# EAGLE library part LM2596SX-5.0/NOPB (library FillControl)
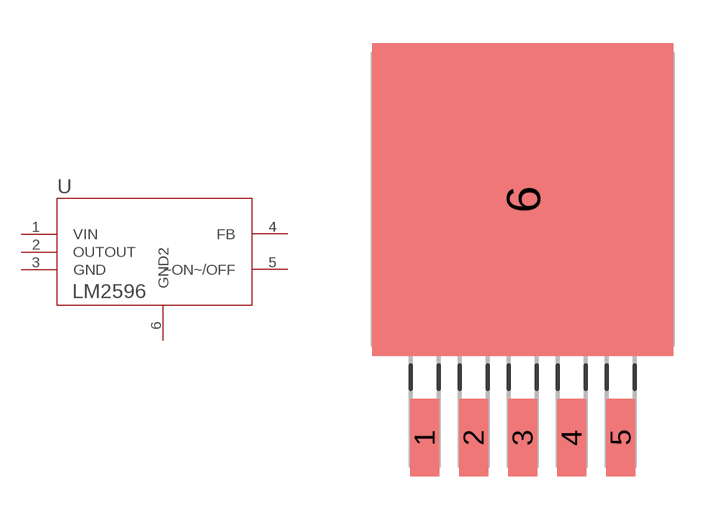
[diagram p1: symbol with the pads of TS5B; footprint TS5B]

Designator prefix U

## LM2596SX-5.0/NOPB (MANUFACTURER_PART_NUMBER: LM2596SX5.0NOPB; VENDOR: Texas Instruments)  [TS5B]
1  VIN  in
2  OUTOUT  out
3  GND  pas
4  FB  pas
5  ~ON~/OFF  pas
6  GND2  pas

## Footprint TS5B (pad centres in mm)
smd 1.016 x 2.692: 1 -3.404,-8.28; 2 -1.702,-8.28; 3 0,-8.28; 4 1.702,-8.28; 5 3.404,-8.28
smd 10.465 x 10.871: 6 0,0